# EAGLE library part DM3AT-SF-PEJM5 (library lib)
Memory Card Connectors R/A SMT MICROSD CON PUSH-PUSH TOP BRDMNT
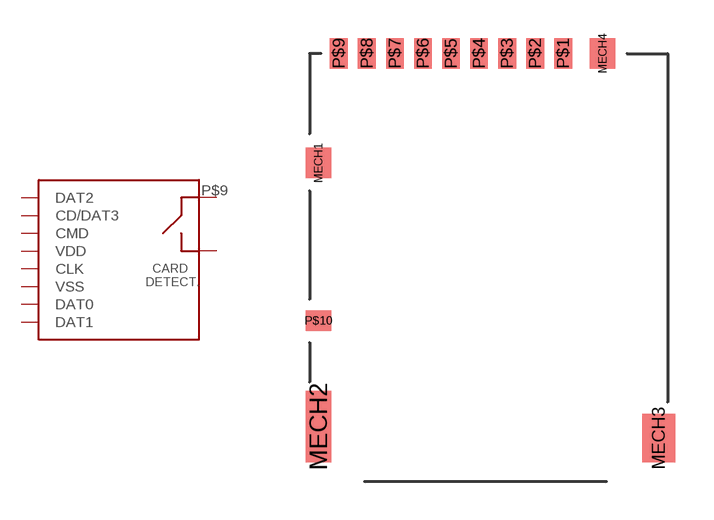
[diagram p2: symbol with the pads of DM3AT-SF-PEJM5_MICROSDREADER; footprint DM3AT-SF-PEJM5_MICROSDREADER]

Designator prefix -

## DM3AT-SF-PEJM5  [DM3AT-SF-PEJM5_MICROSDREADER]
P$1  DAT2
P$2  CD/DAT3
P$3  CMD
P$4  VDD
P$5  CLK
P$6  VSS
P$7  DAT0
P$8  DAT1
P$9  P$9
P$10  P$10

## Footprint DM3AT-SF-PEJM5_MICROSDREADER (pad centres in mm)
smd 1 x 1.2: MECH1 -6.4,3.7; MECH4 4.75,8
smd 1 x 2.8: MECH2 -6.4,-6.65
smd 1.3 x 1.9: MECH3 6.95,-7.1
smd 0.7 x 1.2: P$1 3.2,8; P$2 2.1,8; P$3 1,8; P$4 -0.1,8; P$5 -1.2,8; P$6 -2.3,8; P$7 -3.4,8; P$8 -4.5,8; P$9 -5.6,8
smd 1 x 0.8: P$10 -6.4,-2.5